# Altium footprint library Connectors - Edge - Mezzanine - Board to Board.PcbLib: 5 footprints
Each footprint in its own frame and in the unit in brackets; x right, y up, seen from the top. Pads: shape width x height; smd on the part's side, far side on the other; paste and mask are expansions set on the pad; w line width, h text height; cw(c..) or ccw(c..) is an arc to the next point about the centre after c.
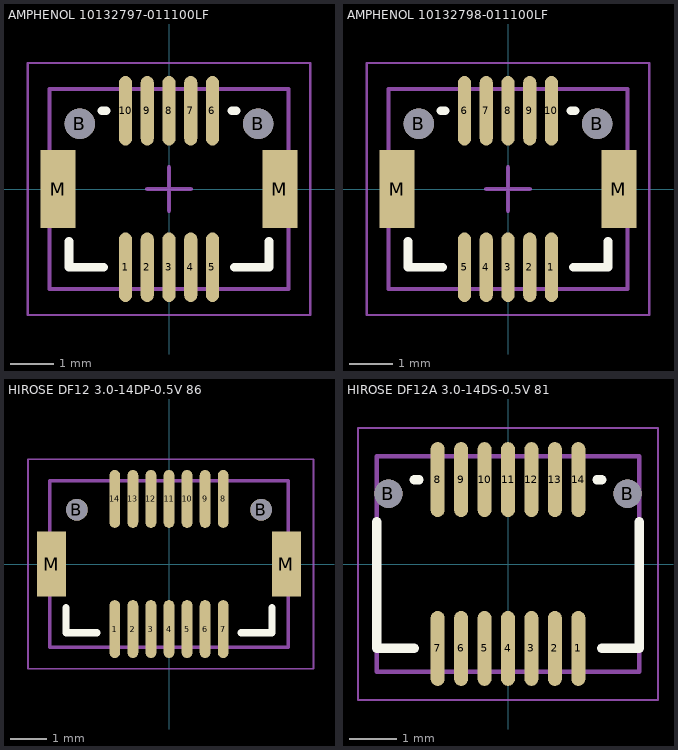
[diagram p0: the footprints below, top view; thin cyan lines are the x and y axes]

## AMPHENOL 10132797-011100LF [mm] "10 Position Connector Plug, 0.5mm Pitch, 4.70x3.80mm Body"
height 2.4
pads (14):
  oval 0.3x1.6 smd: 1(-1,-1.8) 2(-0.5,-1.8) 3(0,-1.8) 4(0.5,-1.8) 5(1,-1.8) 6(1,1.8) 7(0.5,1.8) 8(0,1.8) 9(-0.5,1.8) 10(-1,1.8)
  round 0.7 hole 0.7 unplated: B(-2.05,1.5) B(2.05,1.5)
  rect 0.8x1.8 smd: M(-2.55,0) M(2.55,0)
Top Overlay:
  lines w0.2: -2.3,-1.2 -2.3,-1.8 -1.5,-1.8 ; -1.55,1.8 -1.45,1.8 ; 1.45,1.8 1.55,1.8 ; 1.5,-1.8 2.3,-1.8 2.3,-1.2
Mechanical 1:
  lines w0.1: -2.75,-2.3 2.75,-2.3 2.75,2.3 -2.75,2.3 -2.75,-2.3
Mechanical 15:
  lines w0.05: -3.25,-2.9 3.25,-2.9 3.25,2.9 -3.25,2.9 -3.25,-2.9
  lines w0.1: -0.5,0 0,0 ; 0,-0.5 0,0 ; 0,0.5 0,0 ; 0.5,0 0,0
3D body "Amphenol ICC - 10132797-011100LF v3.step": height 2.3, standoff -0.4, extent -2.75,-2.3 2.75,2.3

## AMPHENOL 10132798-011100LF [mm] "10 Position Connector Plug, 0.5mm Pitch, 4.70x3.80mm Body"
height 2.4
pads (14):
  oval 0.3x1.6 smd: 1(1,-1.8) 2(0.5,-1.8) 3(0,-1.8) 4(-0.5,-1.8) 5(-1,-1.8) 6(-1,1.8) 7(-0.5,1.8) 8(0,1.8) 9(0.5,1.8) 10(1,1.8)
  round 0.7 hole 0.7 unplated: B(-2.05,1.5) B(2.05,1.5)
  rect 0.8x1.8 smd: M(-2.55,0) M(2.55,0)
Top Overlay:
  lines w0.2: -2.3,-1.2 -2.3,-1.8 -1.5,-1.8 ; -1.55,1.8 -1.45,1.8 ; 1.45,1.8 1.55,1.8 ; 1.5,-1.8 2.3,-1.8 2.3,-1.2
Mechanical 1:
  lines w0.1: -2.75,-2.3 2.75,-2.3 2.75,2.3 -2.75,2.3 -2.75,-2.3
Mechanical 15:
  lines w0.05: -3.25,-2.9 3.25,-2.9 3.25,2.9 -3.25,2.9 -3.25,-2.9
  lines w0.1: -0.5,0 0,0 ; 0,-0.5 0,0 ; 0,0.5 0,0 ; 0.5,0 0,0
3D body "Amphenol - 10132798-011100LF v2.step": height 2.15, standoff -0.4, extent -2.75,-2.3 2.75,2.3

## HIROSE DF12 3.0-14DP-0.5V 86 [mm] "14 Position Connector Header, 0.50mm Pitch,5.7x3.8mm Body"
height 2.3
pads (18):
  oval 0.3x1.6 smd: 1(-1.5,-1.8) 2(-1,-1.8) 3(-0.5,-1.8) 4(0,-1.8) 5(0.5,-1.8) 6(1,-1.8) 7(1.5,-1.8) 8(1.5,1.8) 9(1,1.8) 10(0.5,1.8) 11(0,1.8) 12(-0.5,1.8) 13(-1,1.8) 14(-1.5,1.8)
  round 0.6 hole 0.6 unplated: B(-2.55,1.5) B(2.55,1.5)
  rect 0.8x1.8 smd: M(-3.25,0) M(3.25,0)
Top Overlay:
  lines w0.2: -2.85,-1.2 -2.85,-1.9 -2,-1.9 ; 2,-1.9 2.85,-1.9 2.85,-1.2
Mechanical 13:
  lines w0.1: -3.3,-2.3 -3.3,2.3 3.3,2.3 3.3,-2.3 -3.3,-2.3
Mechanical 15:
  lines w0.05: -3.9,-2.9 4,-2.9 4,2.9 -3.9,2.9 -3.9,-2.9
3D body "Hirose - DF12(3.0)-14DP-0.5V(86).step": height 2.3, standoff -0.6, extent -3.3,-2.3 3.3,2.3

## HIROSE DF12A 3.0-14DS-0.5V 81 [mm] "14 Position Connector Receptacle, 0.50mm Pitch,5.60x3.60mm Body"
height 2.2
pads (16):
  oval 0.3x1.6 smd: 1(1.5,-1.8) 2(1,-1.8) 3(0.5,-1.8) 4(0,-1.8) 5(-0.5,-1.8) 6(-1,-1.8) 7(-1.5,-1.8) 8(-1.5,1.8) 9(-1,1.8) 10(-0.5,1.8) 11(0,1.8) 12(0.5,1.8) 13(1,1.8) 14(1.5,1.8)
  round 0.6 hole 0.6 unplated: B(-2.55,1.5) B(2.55,1.5)
Top Overlay:
  lines w0.2: -2.8,0.9 -2.8,-1.8 -2,-1.8 ; -2,1.8 -1.9,1.8 ; 1.9,1.8 2,1.8 ; 2,-1.8 2.8,-1.8 2.8,0.9
Mechanical 13:
  lines w0.1: -2.8,-2.3 2.8,-2.3 2.8,2.3 -2.8,2.3 -2.8,-2.3
Mechanical 15:
  lines w0.05: -3.2,-2.9 3.2,-2.9 3.2,2.9 -3.2,2.9 -3.2,-2.9
3D body "Hirose - DF12A(3.0)-14DS-0.5V(81) v3.step": height 2.2, standoff -0.6, extent -2.8,-2.3 2.8,2.3

## PCBComponent_1 [mm]